# Altium footprint library Library_pcb.PcbLib: 80 footprints (part 3 of 5)
Each footprint in its own frame and in the unit in brackets; x right, y up, seen from the top. Pads: shape width x height; smd on the part's side, far side on the other; paste and mask are expansions set on the pad; w line width, h text height; cw(c..) or ccw(c..) is an arc to the next point about the centre after c.
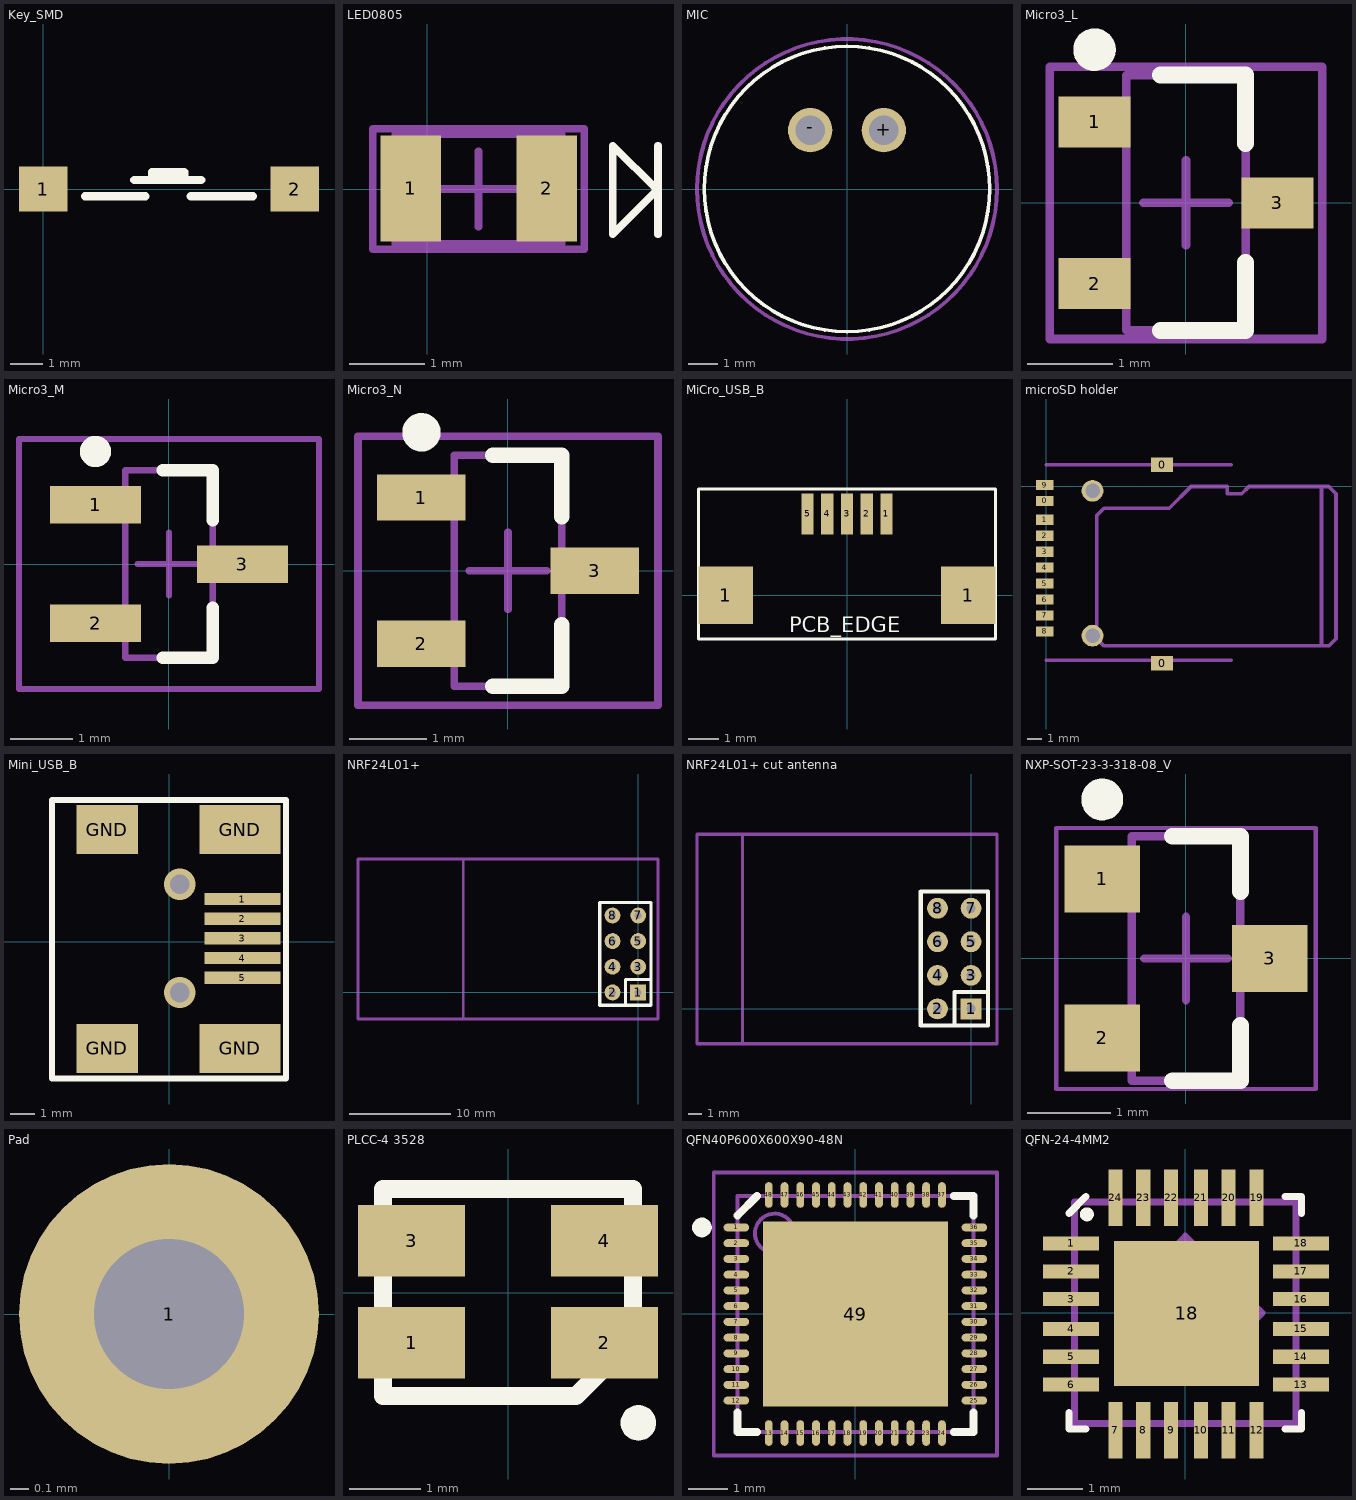
[diagram p2: the footprints below, top view; thin cyan lines are the x and y axes]

## Key_SMD [mm] "TM1103R25B"
height 2.5
pads (2):
  rect 1.5x1.4 smd: 1(0,0) 2(7.8,0)
Top Overlay:
  lines w0.254: 1.3,-0.225 3.175,-0.225 ; 2.825,0.275 4.9,0.275 ; 3.375,0.35 3.375,0.525 4.375,0.525 4.375,0.3 ; 4.575,-0.225 6.5,-0.225

## LED0805 [mm] "Chip Resistor, Body 2.0x1.2mm, IPC High Density"
height 0.7
pads (2):
  rect 0.8x1.4 smd: 1(-0.219,0.008) 2(1.578,0.008)
Top Overlay:
  lines w0.1: 3.05,-0.6 3.05,0.575 ; 2.45,-0.6 3.037,-0.013 2.45,0.575 2.45,-0.6
Mechanical 13:
  lines w0.1: -0.425,-0.725 -0.425,0.725 1.775,0.725 1.775,-0.725 -0.425,-0.725
Mechanical 15:
  lines w0.1: 0.175,0 1.175,0 ; 0.675,-0.5 0.675,0.5 ; -0.725,-0.8 -0.725,0.8 2.075,0.8 2.075,-0.8 -0.725,-0.8
3D body: height 1.4, standoff 0, extent -0.425,-0.725 1.775,0.725

## MIC [mm]
pads (2):
  round 1.508 hole 1 mask-25.4: +(1.25,2) -(-1.25,2)
Top Overlay:
  circle w0.127: c0,0 r4.85
Top Solder:
  region: -1.25,2.861 -1.473,2.832 -1.681,2.746 -1.859,2.609 -1.996,2.431 -2.082,2.223 -2.111,2 -2.082,1.777 -1.996,1.569 -1.859,1.391 -1.681,1.254 -1.473,1.168 -1.25,1.139 -1.027,1.168 -0.819,1.254 -0.641,1.391 -0.504,1.569 -0.418,1.777 -0.389,2 -0.418,2.223 -0.504,2.431 -0.641,2.609 -0.819,2.746 -1.027,2.832
  region: 1.25,2.861 1.027,2.832 0.819,2.746 0.641,2.609 0.504,2.431 0.418,2.223 0.389,2 0.418,1.777 0.504,1.569 0.641,1.391 0.819,1.254 1.027,1.168 1.25,1.139 1.473,1.168 1.681,1.254 1.859,1.391 1.996,1.569 2.082,1.777 2.111,2 2.082,2.223 1.996,2.431 1.859,2.609 1.681,2.746 1.473,2.832
Bottom Solder:
  region: -1.25,2.861 -1.473,2.832 -1.681,2.746 -1.859,2.609 -1.996,2.431 -2.082,2.223 -2.111,2 -2.082,1.777 -1.996,1.569 -1.859,1.391 -1.681,1.254 -1.473,1.168 -1.25,1.139 -1.027,1.168 -0.819,1.254 -0.641,1.391 -0.504,1.569 -0.418,1.777 -0.389,2 -0.418,2.223 -0.504,2.431 -0.641,2.609 -0.819,2.746 -1.027,2.832
  region: 1.25,2.861 1.027,2.832 0.819,2.746 0.641,2.609 0.504,2.431 0.418,2.223 0.389,2 0.418,1.777 0.504,1.569 0.641,1.391 0.819,1.254 1.027,1.168 1.25,1.139 1.473,1.168 1.681,1.254 1.859,1.391 1.996,1.569 2.082,1.777 2.111,2 2.082,2.223 1.996,2.431 1.859,2.609 1.681,2.746 1.473,2.832
Mechanical 1:
  circle w0.127: c0,0 r5.1

## Micro3_L [mm] "SOT23, 3-Leads, Body 2.9x1.3mm, Pitch 0.95mm, Lead Span 2.3mm, IPC High Density"
height 1.12
pads (3):
  rect 0.85x0.6 smd: 1(-1.075,0.95) 2(-1.075,-0.95) 3(1.075,0)
Top Overlay:
  circle w0.25: c-1.075,1.8 r0.125
  lines w0.2: -0.3,-1.5 0.7,-1.5 0.7,-0.7 ; -0.3,1.5 0.7,1.5 0.7,0.7
Mechanical 13:
  lines w0.1: -0.7,-1.5 -0.7,1.5 0.7,1.5 0.7,-1.5 -0.7,-1.5
Mechanical 15:
  lines w0.1: -0.5,0 0.5,0 ; 0,-0.5 0,0.5 ; -1.6,-1.6 -1.6,1.6 1.6,1.6 1.6,-1.6 -1.6,-1.6
3D body: height 1.12, standoff 0, extent -0.7,-1.5 0.7,1.5

## Micro3_M [mm] "SOT23, 3-Leads, Body 2.9x1.3mm, Pitch 0.95mm, Lead Span 2.3mm, IPC Low Density"
height 1.12
pads (3):
  rect 1.45x0.6 smd: 1(-1.175,0.95) 2(-1.175,-0.95) 3(1.175,0)
Top Overlay:
  circle w0.25: c-1.175,1.8 r0.125
  lines w0.2: -0.1,-1.5 0.7,-1.5 0.7,-0.7 ; -0.1,1.5 0.7,1.5 0.7,0.7
Mechanical 13:
  lines w0.1: -0.7,-1.5 0.7,-1.5 0.7,1.5 -0.7,1.5 -0.7,-1.5
Mechanical 15:
  lines w0.1: -0.5,0 0.5,0 ; 0,-0.5 0,0.5 ; -2.4,-2 2.4,-2 2.4,2 -2.4,2 -2.4,-2
3D body: height 1.12, standoff 0, extent -0.7,-1.5 0.7,1.5

## Micro3_N [mm] "SOT23, 3-Leads, Body 2.9x1.3mm, Pitch 0.95mm, Lead Span 2.3mm, IPC Medium Density"
height 1.12
pads (3):
  rect 1.15x0.6 smd: 1(-1.125,0.95) 2(-1.125,-0.95) 3(1.125,0)
Top Overlay:
  circle w0.25: c-1.125,1.8 r0.125
  lines w0.2: -0.2,-1.5 0.7,-1.5 0.7,-0.7 ; -0.2,1.5 0.7,1.5 0.7,0.7
Mechanical 13:
  lines w0.1: -0.7,-1.5 0.7,-1.5 0.7,1.5 -0.7,1.5 -0.7,-1.5
Mechanical 15:
  lines w0.1: -0.5,0 0.5,0 ; 0,-0.5 0,0.5 ; -1.95,-1.75 1.95,-1.75 1.95,1.75 -1.95,1.75 -1.95,-1.75
3D body: height 1.12, standoff 0, extent -0.7,-1.5 0.7,1.5

## MiCro_USB_B [mm]
pads (7):
  rect 1.8x1.9 smd: 1(-4,0) 1(4,0)
  rect 0.4x1.35 smd: 1(1.3,2.675) 2(0.65,2.675) 3(0,2.675) 4(-0.65,2.675) 5(-1.3,2.675)
Top Overlay:
  lines w0.1: -4.9,-1.45 4.9,-1.45 4.9,3.5 -4.9,3.5 -4.9,-1.45
  text "PCB_EDGE" at -1.9,-1.225 h0.5

## microSD holder [mm]
pads (14):
  rect 1.2x0.7 smd: 0(-0.1,-1) 1(-0.1,-2.3) 2(-0.1,-3.4) 3(-0.1,-4.5) 4(-0.1,-5.6) 5(-0.1,-6.7) 6(-0.1,-7.8) 7(-0.1,-8.9) 8(-0.1,-10) 9(-0.1,0.1)
  rect 1.5x1 smd: 0(8,-12.2) 0(8,1.5)
  round 1.5 hole 1 unplated: ""(3.2,-10.3) ""(3.2,-0.3)
Mechanical 1:
  lines w0.254: 0,-12 12.75,-12 ; 0,1.5 12.75,1.5 ; 19,-11 19,0 ; 20,-10.5 19.5,-11 4,-11 3.5,-10.5 3.5,-2 4,-1.5 8.5,-1.5 10,0 12.5,0 12.5,-0.5 13.5,-0.5 14,0 19.5,0 20,-0.5 20,-10.5 ; 20,-10.5 20,-10.5
3D body "112I-TXAR-R_C_1.STEP": height 1.95, standoff -0.6, extent -0.5,-12.35 12.783,1.75

## Mini_USB_B [mm]
pads (9):
  rect 3.1x0.5 smd: 1(2.987,1.738) 2(2.987,0.938) 3(2.987,0.138) 4(2.987,-0.663) 5(2.987,-1.463)
  rect 2.5x2 smd: GND(-2.512,-4.337) GND(-2.512,4.563)
  rect 3.3x2 smd: GND(2.887,-4.337) GND(2.887,4.563)
via 0.437,-2.062 diameter 1.27 hole 0.8
via 0.437,2.338 diameter 1.27 hole 0.8
Top Overlay:
  lines w0.254: -4.763,-5.562 -4.763,5.563 -4.763,5.762 4.763,5.762 4.763,-5.562 -4.763,-5.562

## NRF24L01+ [mil] "Module 2.4Ghz"
pads (8):
  rect 62x62 hole 27.56: 1(0,0)
  round 62 hole 27.56: 2(-100,0) 3(0,100) 4(-100,100) 5(0,200) 6(-100,200) 7(0,300) 8(-100,300)
Top Overlay:
  lines w12: -50,-50 -50,50 50,50 ; -150,-50 -150,350 50,350 50,-50 -150,-50
Mechanical 1:
  lines w10: -681.5,-103.75 -681.5,520.25 ; -1092.52,-103.75 -1092.52,520.25 77.25,520.25 77.25,-103.75 -1092.52,-103.75

## NRF24L01+ cut antenna [mil] "Module 2.4Ghz"
pads (8):
  rect 62x62 hole 27.56: 1(0,0)
  round 62 hole 27.56: 2(-100,0) 3(0,100) 4(-100,100) 5(0,200) 6(-100,200) 7(0,300) 8(-100,300)
Top Overlay:
  lines w12: -50,-50 -50,50 50,50 ; -150,-50 -150,350 50,350 50,-50 -150,-50
Mechanical 1:
  lines w10: -681.5,-103.75 -681.5,520.25 ; -816.93,-103.75 -816.93,520.25 77.25,520.25 77.25,-103.75 -816.93,-103.75

## NXP-SOT-23-3-318-08_V [mm] "SOT23, 3-Leads, Body 2.92x1.3mm, Pitch 0.95mm"
height 1.11
pads (3):
  rect 0.9x0.8 smd: 1(-1,0.95) 2(-1,-0.95) 3(1,0)
Top Overlay:
  circle w0.25: c-1,1.9 r0.125
  lines w0.2: -0.165,-1.46 0.65,-1.46 0.65,-0.8 ; -0.165,1.46 0.65,1.46 0.65,0.8
Mechanical 13:
  lines w0.1: -0.65,-1.46 -0.65,1.46 0.65,1.46 0.65,-1.46 -0.65,-1.46
Mechanical 15:
  lines w0.05: -1.55,-1.56 -1.55,1.56 1.55,1.56 1.55,-1.56 -1.55,-1.56
  lines w0.1: -0.5,0 0.5,0 ; 0,-0.5 0,0.5
3D body: height 1.11, standoff 0.01, extent -0.65,-1.46 0.65,1.46

## Pad [mm]
pads (1):
  round 1.6 hole 0.8: 1(0,0)

## PLCC-4 3528 [mm]
pads (5):
  rect 1.5x1 smd: 1(-1.35,-0.7) 2(1.35,-0.7) 3(-1.35,0.725) 4(1.35,0.725)
  round 0.5 on Top Overlay: ""(1.825,-1.825)
Top Overlay:
  lines w0.254: -1.75,-1.45 0.95,-1.45 1.75,-0.65 1.75,1.45 -1.75,1.45 -1.75,-1.45

## QFN40P600X600X90-48N [mm]
pads (49):
  oval 0.65x0.2 smd: 1(-3.025,2.2) 2(-3.025,1.8) 3(-3.025,1.4) 4(-3.025,1) 5(-3.025,0.6) 6(-3.025,0.2) 7(-3.025,-0.2) 8(-3.025,-0.6) 9(-3.025,-1) 10(-3.025,-1.4) 11(-3.025,-1.8) 12(-3.025,-2.2) 25(3.025,-2.2) 26(3.025,-1.8) 27(3.025,-1.4) 28(3.025,-1) 29(3.025,-0.6) 30(3.025,-0.2) 31(3.025,0.2) 32(3.025,0.6) 33(3.025,1) 34(3.025,1.4) 35(3.025,1.8) 36(3.025,2.2)
  oval 0.2x0.65 smd: 13(-2.2,-3.025) 14(-1.8,-3.025) 15(-1.4,-3.025) 16(-1,-3.025) 17(-0.6,-3.025) 18(-0.2,-3.025) 19(0.2,-3.025) 20(0.6,-3.025) 21(1,-3.025) 22(1.4,-3.025) 23(1.8,-3.025) 24(2.2,-3.025) 37(2.2,3.025) 38(1.8,3.025) 39(1.4,3.025) 40(1,3.025) 41(0.6,3.025) 42(0.2,3.025) 43(-0.2,3.025) 44(-0.6,3.025) 45(-1,3.025) 46(-1.4,3.025) 47(-1.8,3.025) 48(-2.2,3.025)
  rect 4.7x4.7 smd: 49(0,0)
Top Overlay:
  circle w0.25: c-3.9,2.2 r0.125
  lines w0.2: -3,-2.5 -3,-3 -2.5,-3 ; -3,2.5 -2.5,3 ; 2.5,-3 3,-3 3,-2.5 ; 2.5,3 3,3 3,2.5
Mechanical 13:
  circle w0.1: c-2.05,2.05 r0.5
  lines w0.1: -3,-3 -3,3 3,3 3,-3 -3,-3
Mechanical 15:
  lines w0.1: -0.5,0 0.5,0 ; 0,-0.5 0,0.5 ; -3.6,-3.6 -3.6,3.6 3.6,3.6 3.6,-3.6 -3.6,-3.6
3D body: height 0.9, standoff 0, extent -3,-3 3,3

## QFN-24-4MM2 [mil]
pads (25):
  rect 40x10 smd paste-1000 mask-1000: 1(-81.35,49.48) 2(-81.35,29.51) 3(-81.35,9.74) 4(-81.35,-11.32) 5(-81.35,-31.18) 6(-81.35,-51.05) 13(82.13,-51.05) 14(82.13,-31.18) 15(82.13,-11.32) 16(82.13,9.74) 17(82.13,29.51) 18(82.13,49.48)
  rect 10x40 smd paste-1000 mask-1000: 7(-49.87,-83.53) 8(-30,-83.53) 9(-10.14,-83.53) 10(10.93,-83.53) 11(30.69,-83.53) 12(50.66,-83.53) 19(50.66,81.95) 20(30.69,81.95) 21(10.93,81.95) 22(-10.14,81.95) 23(-30,81.95) 24(-49.87,81.95)
  rect 103x103 smd mask-1000: 18(0.79,-0.39)
Top Overlay:
  circle w5: c-70.08,70.08 r2.49
  lines w5: -82.68,-70.87 -82.68,-82.68 -70.87,-82.68 ; -82.68,70.87 -70.87,82.68 ; 70.87,-82.68 82.68,-82.68 82.68,-70.87 ; 70.87,82.68 82.68,82.68 82.68,70.87
Top Paste:
  region: -61.35,54.48 -101.35,54.48 -101.35,44.48 -61.35,44.48
  region: -61.35,34.51 -101.35,34.51 -101.35,24.51 -61.35,24.51
  region: -61.35,14.74 -101.35,14.74 -101.35,4.74 -61.35,4.74
  region: -61.35,-6.32 -101.35,-6.32 -101.35,-16.32 -61.35,-16.32
  region: -61.35,-26.18 -101.35,-26.18 -101.35,-36.19 -61.35,-36.19
  region: -61.35,-46.05 -101.35,-46.05 -101.35,-56.05 -61.35,-56.05
  region: 102.13,54.48 62.13,54.48 62.13,44.48 102.13,44.48
  region: 102.13,34.51 62.13,34.51 62.13,24.51 102.13,24.51
  region: 102.13,14.74 62.13,14.74 62.13,4.74 102.13,4.74
  region: 102.13,-6.32 62.13,-6.32 62.13,-16.32 102.13,-16.32
  region: 102.13,-26.18 62.13,-26.18 62.13,-36.19 102.13,-36.19
  region: 102.13,-46.05 62.13,-46.05 62.13,-56.05 102.13,-56.05
  region: 55.66,-103.53 55.66,-63.53 45.66,-63.53 45.66,-103.53
  region: 35.69,-103.53 35.69,-63.53 25.69,-63.53 25.69,-103.53
  region: 15.93,-103.53 15.93,-63.53 5.93,-63.53 5.93,-103.53
  region: -5.14,-103.53 -5.14,-63.53 -15.14,-63.53 -15.14,-103.53
  region: -25,-103.53 -25,-63.53 -35,-63.53 -35,-103.53
  region: -44.87,-103.53 -44.87,-63.53 -54.87,-63.53 -54.87,-103.53
  region: 55.66,61.95 55.66,101.95 45.66,101.95 45.66,61.95
  region: 35.69,61.95 35.69,101.95 25.69,101.95 25.69,61.95
  region: 15.93,61.95 15.93,101.95 5.93,101.95 5.93,61.95
  region: -5.14,61.95 -5.14,101.95 -15.14,101.95 -15.14,61.95
  region: -25,61.95 -25,101.95 -35,101.95 -35,61.95
  region: -44.87,61.95 -44.87,101.95 -54.87,101.95 -54.87,61.95
Top Solder:
  region: -54.65,-55.83 56.22,-55.83 56.22,55.04 -54.65,55.04
  region: -57.41,58.41 -105.28,58.41 -105.28,40.54 -57.41,40.54
  region: -57.41,38.45 -105.28,38.45 -105.28,20.57 -57.41,20.57
  region: -57.41,18.68 -105.28,18.68 -105.28,0.81 -57.41,0.81
  region: -57.41,-2.38 -105.28,-2.38 -105.28,-20.26 -57.41,-20.26
  region: -57.41,-22.25 -105.28,-22.25 -105.28,-40.12 -57.41,-40.12
  region: -57.41,-42.11 -105.28,-42.11 -105.28,-59.99 -57.41,-59.99
  region: 106.07,58.41 58.2,58.41 58.2,40.54 106.07,40.54
  region: 106.07,38.45 58.2,38.45 58.2,20.57 106.07,20.57
  region: 106.07,18.68 58.2,18.68 58.2,0.81 106.07,0.81
  region: 106.07,-2.38 58.2,-2.38 58.2,-20.26 106.07,-20.26
  region: 106.07,-22.25 58.2,-22.25 58.2,-40.12 106.07,-40.12
  region: 106.07,-42.11 58.2,-42.11 58.2,-59.99 106.07,-59.99
  region: 59.59,-107.46 59.59,-59.59 41.72,-59.59 41.72,-107.46
  region: 39.63,-107.46 39.63,-59.59 21.76,-59.59 21.76,-107.46
  region: 19.86,-107.46 19.86,-59.59 1.99,-59.59 1.99,-107.46
  region: -1.2,-107.46 -1.2,-59.59 -19.07,-59.59 -19.07,-107.46
  region: -21.07,-107.46 -21.07,-59.59 -38.94,-59.59 -38.94,-107.46
  region: -40.93,-107.46 -40.93,-59.59 -58.81,-59.59 -58.81,-107.46
  region: 59.59,58.02 59.59,105.89 41.72,105.89 41.72,58.02
  region: 39.63,58.02 39.63,105.89 21.76,105.89 21.76,58.02
  region: 19.86,58.02 19.86,105.89 1.99,105.89 1.99,58.02
  region: -1.2,58.02 -1.2,105.89 -19.07,105.89 -19.07,58.02
  region: -21.07,58.02 -21.07,105.89 -38.94,105.89 -38.94,58.02
  region: -40.93,58.02 -40.93,105.89 -58.81,105.89 -58.81,58.02
Mechanical 1:
  circle w3.94: c0,0 r7.87
  lines w3.94: -11.83,27.46 cw(c0,25.59) 11.83,27.46 ; -7.87,47.24 0,55.12 ; 0,7.87 0,55.12 ; 7.87,0 55.12,0 ; 7.87,27.56 11.81,27.56 15.75,31.5 ; 7.87,47.24 0,55.12 ; 27.46,-11.83 ccw(c25.59,0) 27.46,11.83 ; 27.56,-7.87 27.56,-11.81 31.5,-15.75 ; 47.24,-7.87 55.12,0 ; 47.24,7.87 55.12,0
  lines w5: -78.74,-78.74 -78.74,78.74 78.74,78.74 78.74,-78.74 -78.74,-78.74
3D body "mpu-6050_qfn-24.step": height 34.65, standoff -0.79, extent -79.53,-79.53 79.53,79.53